# Altium footprint library PWQFN-16.PcbLib: 1 footprints
Each footprint in its own frame and in the unit in brackets; x right, y up, seen from the top. Pads: shape width x height; smd on the part's side, far side on the other; paste and mask are expansions set on the pad; w line width, h text height; cw(c..) or ccw(c..) is an arc to the next point about the centre after c.
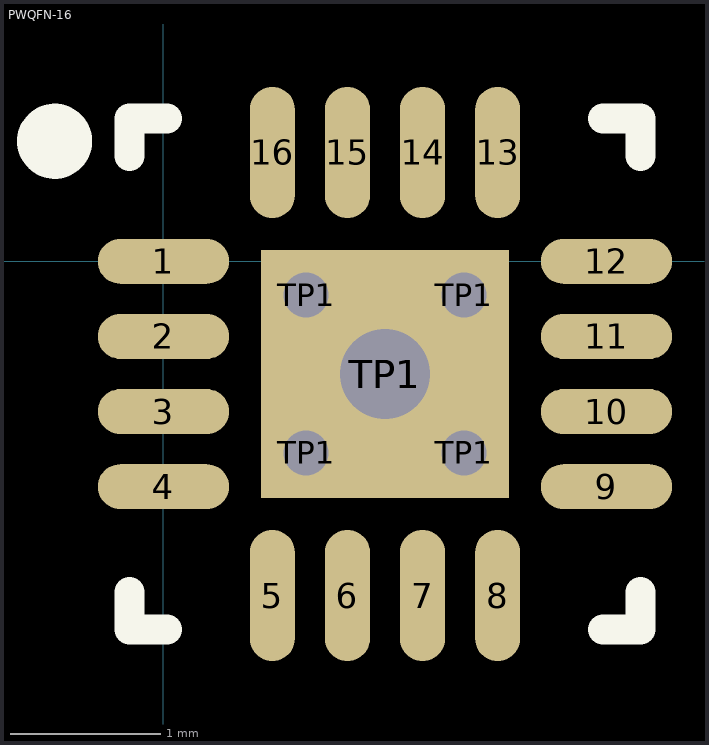
[diagram p0: the footprint, top view; thin cyan lines are the x and y axes]

## PWQFN-16 [mm] "PQFN, 16-Leads, Body 3,00x3,00mm, Pitch 0,50mm, Thermal Pad 1,65x1,65mm, IPC Medium Density"
height 0.8
pads (22):
  rrect100% 0.875x0.3 smd mask+0.07: 1(0,0) 2(0,-0.5) 3(0,-1) 4(0,-1.5) 9(2.95,-1.5) 10(2.95,-1) 11(2.95,-0.5) 12(2.95,0)
  rrect100% 0.3x0.875 smd mask+0.07: 5(0.725,-2.225) 6(1.225,-2.225) 7(1.725,-2.225) 8(2.225,-2.225) 13(2.225,0.725) 14(1.725,0.725) 15(1.225,0.725) 16(0.725,0.725)
  round 0.5 hole 0.3: TP1(0.95,-1.275) TP1(0.95,-0.225) TP1(2,-1.275) TP1(2,-0.225)
  round 0.8 hole 0.6: TP1(1.475,-0.75)
  rect 1.65x1.65 smd: TP1(1.475,-0.75)
Top Overlay:
  circle w0.25: c-0.725,0.8 r0.125
  lines w0.2: -0.227,-2.202 -0.227,-2.452 0.023,-2.452 ; -0.227,0.702 -0.227,0.952 0.023,0.952 ; 2.927,-2.452 3.177,-2.452 3.177,-2.202 ; 2.927,0.952 3.177,0.952 3.177,0.702
3D body "PWQFN-16.step": height 0.8, standoff 0, extent -0.1,-2.325 3.05,0.825